# EAGLE library part TXB0304RUTR (library shepherd)
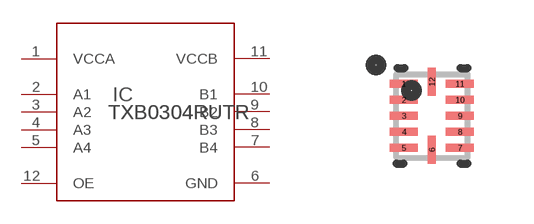
[diagram p16: symbol with the pads of RUT0012A; footprint RUT0012A]

Designator prefix IC

## TXB0304RUTR  [RUT0012A]
1  VCCA  pwr
2  A1
3  A2
4  A3
5  A4
6  GND  pwr
7  B4
8  B3
9  B2
10  B1
11  VCCB  pwr
12  OE  in

## Footprint RUT0012A (pad centres in mm)
smd 0.7 x 0.2: 1 -0.7,0.8; 2 -0.7,0.4; 3 -0.7,0; 4 -0.7,-0.4; 5 -0.7,-0.8; 7 0.7,-0.8; 8 0.7,-0.4; 9 0.7,0; 10 0.7,0.4; 11 0.7,0.8
smd 0.2 x 0.7: 6 0,-0.85; 12 0,0.85